# EAGLE library part RELAIS-MEDER_DIP-1A72-12L (library 1A-meinLib)
Reedrelais Typ Meder DiP/SiL-1A72-.. , Ausführung zweireihig mit 1 Schließer ohne Schutzdiode Typ 1A72-12L
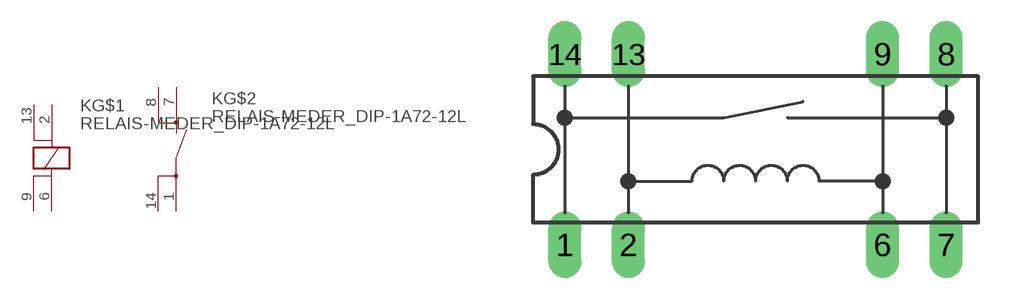
[diagram p118: symbol with the pads of RELAIS-MEDER-1A72-12L; footprint RELAIS-MEDER-1A72-12L]

Designator prefix K; gates G$2=RELAIS-SCHLIESSER G$1=RELAIS-SPULE-2

## RELAIS-MEDER_DIP-1A72-12L  [RELAIS-MEDER-1A72-12L]
1  G$2:COM
2  G$1:A1  pas
6  G$1:A2  pas
7  G$2:NO
8  G$2:NO1
9  G$1:A2-2  pas
13  G$1:A1-2  pas
14  G$2:COM1

## Footprint RELAIS-MEDER-1A72-12L (pad centres in mm)
drill 0.813 long: 1 -7.62,-3.81; 2 -5.08,-3.81; 6 5.08,-3.81; 7 7.62,-3.81; 8 7.62,3.81; 9 5.08,3.81; 13 -5.08,3.81; 14 -7.62,3.81